# Altium schematic symbol library SchemLib.SchLib: 4 symbols
Pins are listed as number, name and electrical type; pins without a type are passive.

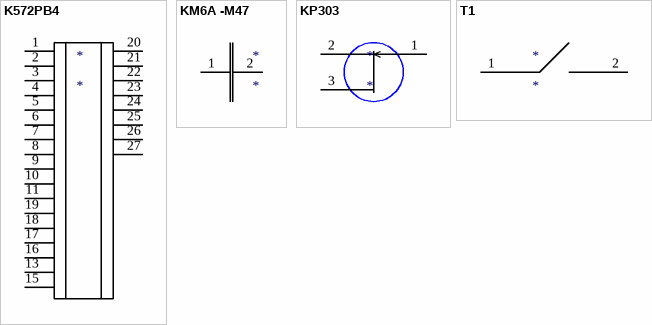
[diagram p0: symbols K572PB4 to Т1]

## K572PB4
designator *
footprint K572PB4
pins: 1, 2, 3, 4, 5, 6, 7, 8, 9, 10, 11, 13, 15, 16, 17, 18, 19, 20, 21, 22, 23, 24, 25, 26, 27

## KM6A -M47
designator *
footprint KM6A -M47
pins: 1, 2

## KP303
designator *
footprint KP303
pins: 1, 2, 3

## Т1
designator *
footprint T1
pins: 1, 2